# Altium schematic symbol library DS3231SLib.SchLib: 1 symbol
Pins are listed as number, name and electrical type; pins without a type are passive.

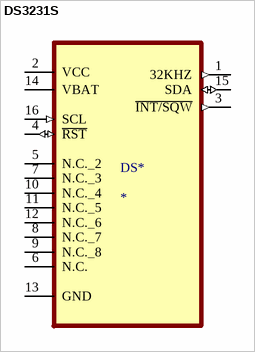
[diagram p0: symbol DS3231S]

## DS3231S
designator DS*
footprint CUI_UJC-HP-3-SMT-TR
pins: 1 32KHZ (out), 2 VCC (power), 3 ~{INT/SQW} (out), 4 ~{RST} (io), 5 N.C._2, 6 N.C., 7 N.C._3, 8 N.C._7, 9 N.C._8, 10 N.C._4, 11 N.C._5, 12 N.C._6, 13 GND, 14 VBAT (power), 15 SDA (io), 16 SCL (in)